# Altium integrated library WE_WR-LECO_1.50 mm LED Connector_rev15a.IntLib: 8 symbols
Pins are listed as number, name and electrical type; pins without a type are passive.

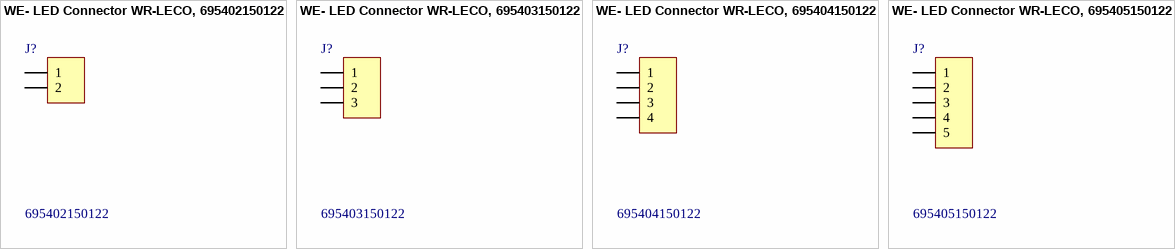
[diagram p0: symbols WE- LED Connector WR-LECO, 695402150122 to WE- LED Connector WR-LECO, 695405150122]

## WE- LED Connector WR-LECO, 695402150122
designator J?, comment 695402150122
WR-LECO 1.50mm Horizontal SMT Plug; Manufacturer: Wurth Elektronik; ComponentLink1 Description: Manufacturer; ComponentLink2 Description: Datasheet; NoPins: 2; Created Date: 10.Oct.2015; partNo: 695402150122; ComponentLink1URL: http://www.we-online.com; Created by: Baojun Chen
footprint 695402150122 (SMT_Plug_Horizontal_2 pins)
pins: 1, 2

## WE- LED Connector WR-LECO, 695403150122
designator J?, comment 695403150122
WR-LECO 1.50mm Horizontal SMT Plug; Manufacturer: Wurth Elektronik; ComponentLink1 Description: Manufacturer; ComponentLink2 Description: Datasheet; NoPins: 3; Created Date: 10.Oct.2015; partNo: 695403150122; ComponentLink1URL: http://www.we-online.com; Created by: Baojun Chen
footprint 695403150122 (SMT_Plug_Horizontal_3 pins)
pins: 1, 2, 3

## WE- LED Connector WR-LECO, 695404150122
designator J?, comment 695404150122
WR-LECO 1.50mm Horizontal SMT Plug; Manufacturer: Wurth Elektronik; ComponentLink1 Description: Manufacturer; ComponentLink2 Description: Datasheet; NoPins: 4; Created Date: 10.Oct.2015; partNo: 695404150122; ComponentLink1URL: http://www.we-online.com; Created by: Baojun Chen
footprint 695404150122 (SMT_Plug_Horizontal_4 pins)
pins: 1, 2, 3, 4

## WE- LED Connector WR-LECO, 695405150122
designator J?, comment 695405150122
WR-LECO 1.50mm Horizontal SMT Plug; Manufacturer: Wurth Elektronik; ComponentLink1 Description: Manufacturer; ComponentLink2 Description: Datasheet; NoPins: 5; Created Date: 10.Oct.2015; partNo: 695405150122; ComponentLink1URL: http://www.we-online.com; Created by: Baojun Chen
footprint 695405150122 (SMT_Plug_Horizontal_5 pins)
pins: 1, 2, 3, 4, 5


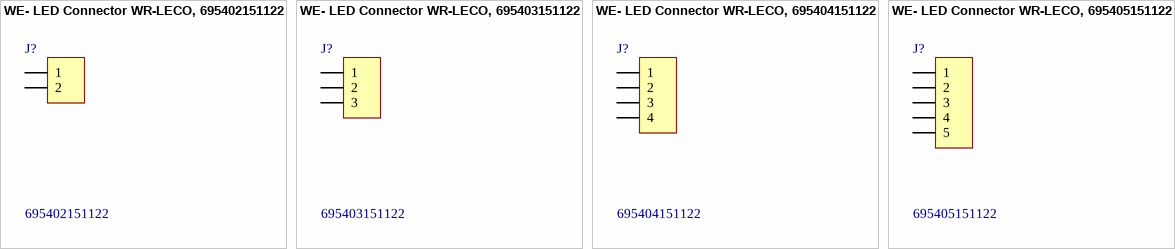
[diagram p1: symbols WE- LED Connector WR-LECO, 695402151122 to WE- LED Connector WR-LECO, 695405151122]

## WE- LED Connector WR-LECO, 695402151122
designator J?, comment 695402151122
WR-LECO 1.50mm Horizontal SMT Receptacle; Manufacturer: Wurth Elektronik; ComponentLink1 Description: Manufacturer; ComponentLink2 Description: Datasheet; NoPins: 2; Created Date: 13.Oct.2015; partNo: 695402151122; ComponentLink1URL: http://www.we-online.com; Created by: Baojun Chen
footprint 695402151122 (Horizontal SMT Receptacle_ 2 pins)
pins: 1, 2

## WE- LED Connector WR-LECO, 695403151122
designator J?, comment 695403151122
WR-LECO 1.50mm Horizontal SMT Receptacle; Manufacturer: Wurth Elektronik; ComponentLink1 Description: Manufacturer; ComponentLink2 Description: Datasheet; NoPins: 3; Created Date: 13.Oct.2015; partNo: 695403151122; ComponentLink1URL: http://www.we-online.com; Created by: Baojun Chen
footprint 695403151122 (Horizontal SMT Receptacle_ 3 pins)
pins: 1, 2, 3

## WE- LED Connector WR-LECO, 695404151122
designator J?, comment 695404151122
WR-LECO 1.50mm Horizontal SMT Receptacle; Manufacturer: Wurth Elektronik; ComponentLink1 Description: Manufacturer; ComponentLink2 Description: Datasheet; NoPins: 4; Created Date: 13.Oct.2015; partNo: 695404151122; ComponentLink1URL: http://www.we-online.com; Created by: Baojun Chen
footprint 695404151122 (Horizontal SMT Receptacle_ 4 pins)
pins: 1, 2, 3, 4

## WE- LED Connector WR-LECO, 695405151122
designator J?, comment 695405151122
WR-LECO 1.50mm Horizontal SMT Receptacle; Manufacturer: Wurth Elektronik; ComponentLink1 Description: Manufacturer; ComponentLink2 Description: Datasheet; NoPins: 5; Created Date: 13.Oct.2015; partNo: 695405151122; ComponentLink1URL: http://www.we-online.com; Created by: Baojun Chen
footprint 695405151122 (Horizontal SMT Receptacle_ 5 pins)
pins: 1, 2, 3, 4, 5